# Altium schematic symbol library 8mmLED.SchLib: 1 symbol
Pins are listed as number, name and electrical type; pins without a type are passive.

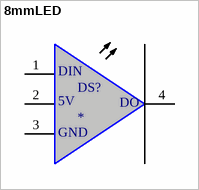
[diagram p0: symbol 8mmLED]

## 8mmLED
designator DS?
WS2812
footprint 8mm
pins: 1 RED, 2 CATHODE, 3 BLUE, 4 GREEN
text: DIN; 5V; DO; GND